# EAGLE library part STM32F103RXYX (library pel_stm32)
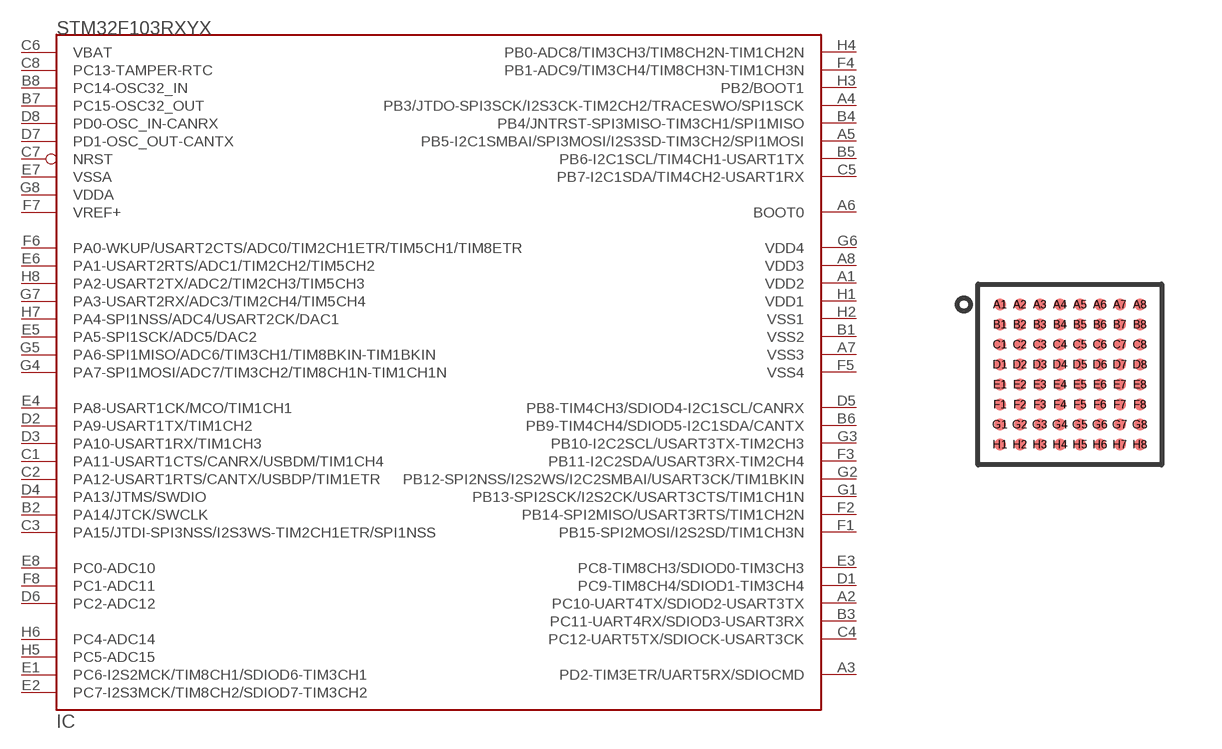
[diagram p8: symbol with the pads of WLCSP64; footprint WLCSP64]

Designator prefix IC

## STM32F103RXYX  [WLCSP64]
A1  VDD2  sup
A2  PC10-UART4TX/SDIOD2-USART3TX
A3  PD2-TIM3ETR/UART5RX/SDIOCMD
A4  PB3/JTDO-SPI3SCK/I2S3CK-TIM2CH2/TRACESWO/SPI1SCK
A5  PB5-I2C1SMBAI/SPI3MOSI/I2S3SD-TIM3CH2/SPI1MOSI
A6  BOOT0  in
A7  VSS3  sup
A8  VDD3  sup
B1  VSS2  sup
B2  PA14/JTCK/SWCLK
B3  PC11-UART4RX/SDIOD3-USART3RX
B4  PB4/JNTRST-SPI3MISO-TIM3CH1/SPI1MISO
B5  PB6-I2C1SCL/TIM4CH1-USART1TX
B6  PB9-TIM4CH4/SDIOD5-I2C1SDA/CANTX
B7  PC15-OSC32_OUT
B8  PC14-OSC32_IN
C1  PA11-USART1CTS/CANRX/USBDM/TIM1CH4
C2  PA12-USART1RTS/CANTX/USBDP/TIM1ETR
C3  PA15/JTDI-SPI3NSS/I2S3WS-TIM2CH1ETR/SPI1NSS
C4  PC12-UART5TX/SDIOCK-USART3CK
C5  PB7-I2C1SDA/TIM4CH2-USART1RX
C6  VBAT  sup
C7  NRST
C8  PC13-TAMPER-RTC
D1  PC9-TIM8CH4/SDIOD1-TIM3CH4
D2  PA9-USART1TX/TIM1CH2
D3  PA10-USART1RX/TIM1CH3
D4  PA13/JTMS/SWDIO
D5  PB8-TIM4CH3/SDIOD4-I2C1SCL/CANRX
D6  PC2-ADC12
D7  PD1-OSC_OUT-CANTX  out
D8  PD0-OSC_IN-CANRX  in
E1  PC6-I2S2MCK/TIM8CH1/SDIOD6-TIM3CH1
E2  PC7-I2S3MCK/TIM8CH2/SDIOD7-TIM3CH2
E3  PC8-TIM8CH3/SDIOD0-TIM3CH3
E4  PA8-USART1CK/MCO/TIM1CH1
E5  PA5-SPI1SCK/ADC5/DAC2
E6  PA1-USART2RTS/ADC1/TIM2CH2/TIM5CH2
E7  VSSA  sup
E8  PC0-ADC10
F1  PB15-SPI2MOSI/I2S2SD/TIM1CH3N
F2  PB14-SPI2MISO/USART3RTS/TIM1CH2N
F3  PB11-I2C2SDA/USART3RX-TIM2CH4
F4  PB1-ADC9/TIM3CH4/TIM8CH3N-TIM1CH3N
F5  VSS4
F6  PA0-WKUP/USART2CTS/ADC0/TIM2CH1ETR/TIM5CH1/TIM8ETR
F7  VREF+
F8  PC1-ADC11
G1  PB13-SPI2SCK/I2S2CK/USART3CTS/TIM1CH1N
G2  PB12-SPI2NSS/I2S2WS/I2C2SMBAI/USART3CK/TIM1BKIN
G3  PB10-I2C2SCL/USART3TX-TIM2CH3
G4  PA7-SPI1MOSI/ADC7/TIM3CH2/TIM8CH1N-TIM1CH1N
G5  PA6-SPI1MISO/ADC6/TIM3CH1/TIM8BKIN-TIM1BKIN
G6  VDD4
G7  PA3-USART2RX/ADC3/TIM2CH4/TIM5CH4
G8  VDDA  sup
H1  VDD1  sup
H2  VSS1  sup
H3  PB2/BOOT1
H4  PB0-ADC8/TIM3CH3/TIM8CH2N-TIM1CH2N
H5  PC5-ADC15
H6  PC4-ADC14
H7  PA4-SPI1NSS/ADC4/USART2CK/DAC1
H8  PA2-USART2TX/ADC2/TIM2CH3/TIM5CH3

## Footprint WLCSP64 (pad centres in mm)
smd 0.3 x 0.3: A1 -1.75,1.75; A2 -1.25,1.75; A3 -0.75,1.75; A4 -0.25,1.75; A5 0.25,1.75; A6 0.75,1.75; A7 1.25,1.75; A8 1.75,1.75; B1 -1.75,1.25; B2 -1.25,1.25; B3 -0.75,1.25; B4 -0.25,1.25; B5 0.25,1.25; B6 0.75,1.25; B7 1.25,1.25; B8 1.75,1.25; C1 -1.75,0.75; C2 -1.25,0.75; C3 -0.75,0.75; C4 -0.25,0.75; C5 0.25,0.75; C6 0.75,0.75; C7 1.25,0.75; C8 1.75,0.75; D1 -1.75,0.25; D2 -1.25,0.25; D3 -0.75,0.25; D4 -0.25,0.25; D5 0.25,0.25; D6 0.75,0.25; D7 1.25,0.25; D8 1.75,0.25; E1 -1.75,-0.25; E2 -1.25,-0.25; E3 -0.75,-0.25; E4 -0.25,-0.25; E5 0.25,-0.25; E6 0.75,-0.25; E7 1.25,-0.25; E8 1.75,-0.25; F1 -1.75,-0.75; F2 -1.25,-0.75; F3 -0.75,-0.75; F4 -0.25,-0.75; F5 0.25,-0.75; F6 0.75,-0.75; F7 1.25,-0.75; F8 1.75,-0.75; G1 -1.75,-1.25; G2 -1.25,-1.25; G3 -0.75,-1.25; G4 -0.25,-1.25; G5 0.25,-1.25; G6 0.75,-1.25; G7 1.25,-1.25; G8 1.75,-1.25; H1 -1.75,-1.75; H2 -1.25,-1.75; H3 -0.75,-1.75; H4 -0.25,-1.75; H5 0.25,-1.75; H6 0.75,-1.75; H7 1.25,-1.75; H8 1.75,-1.75